# Altium schematic symbol library ORWH-SH-112D,N000.SchLib: 1 symbol
Pins are listed as number, name and electrical type; pins without a type are passive.

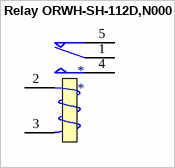
[diagram p0: symbol Relay ORWH-SH-112D,N000]

## Relay ORWH-SH-112D,N000
designator *
pins: 1 COM, 2 COIL1, 3 COIL2, 4 NO, 5 NC